# Altium footprint library PCB1.PcbLib: 18 footprints (part 1 of 2)
Each footprint in its own frame and in the unit in brackets; x right, y up, seen from the top. Pads: shape width x height; smd on the part's side, far side on the other; paste and mask are expansions set on the pad; w line width, h text height; cw(c..) or ccw(c..) is an arc to the next point about the centre after c.
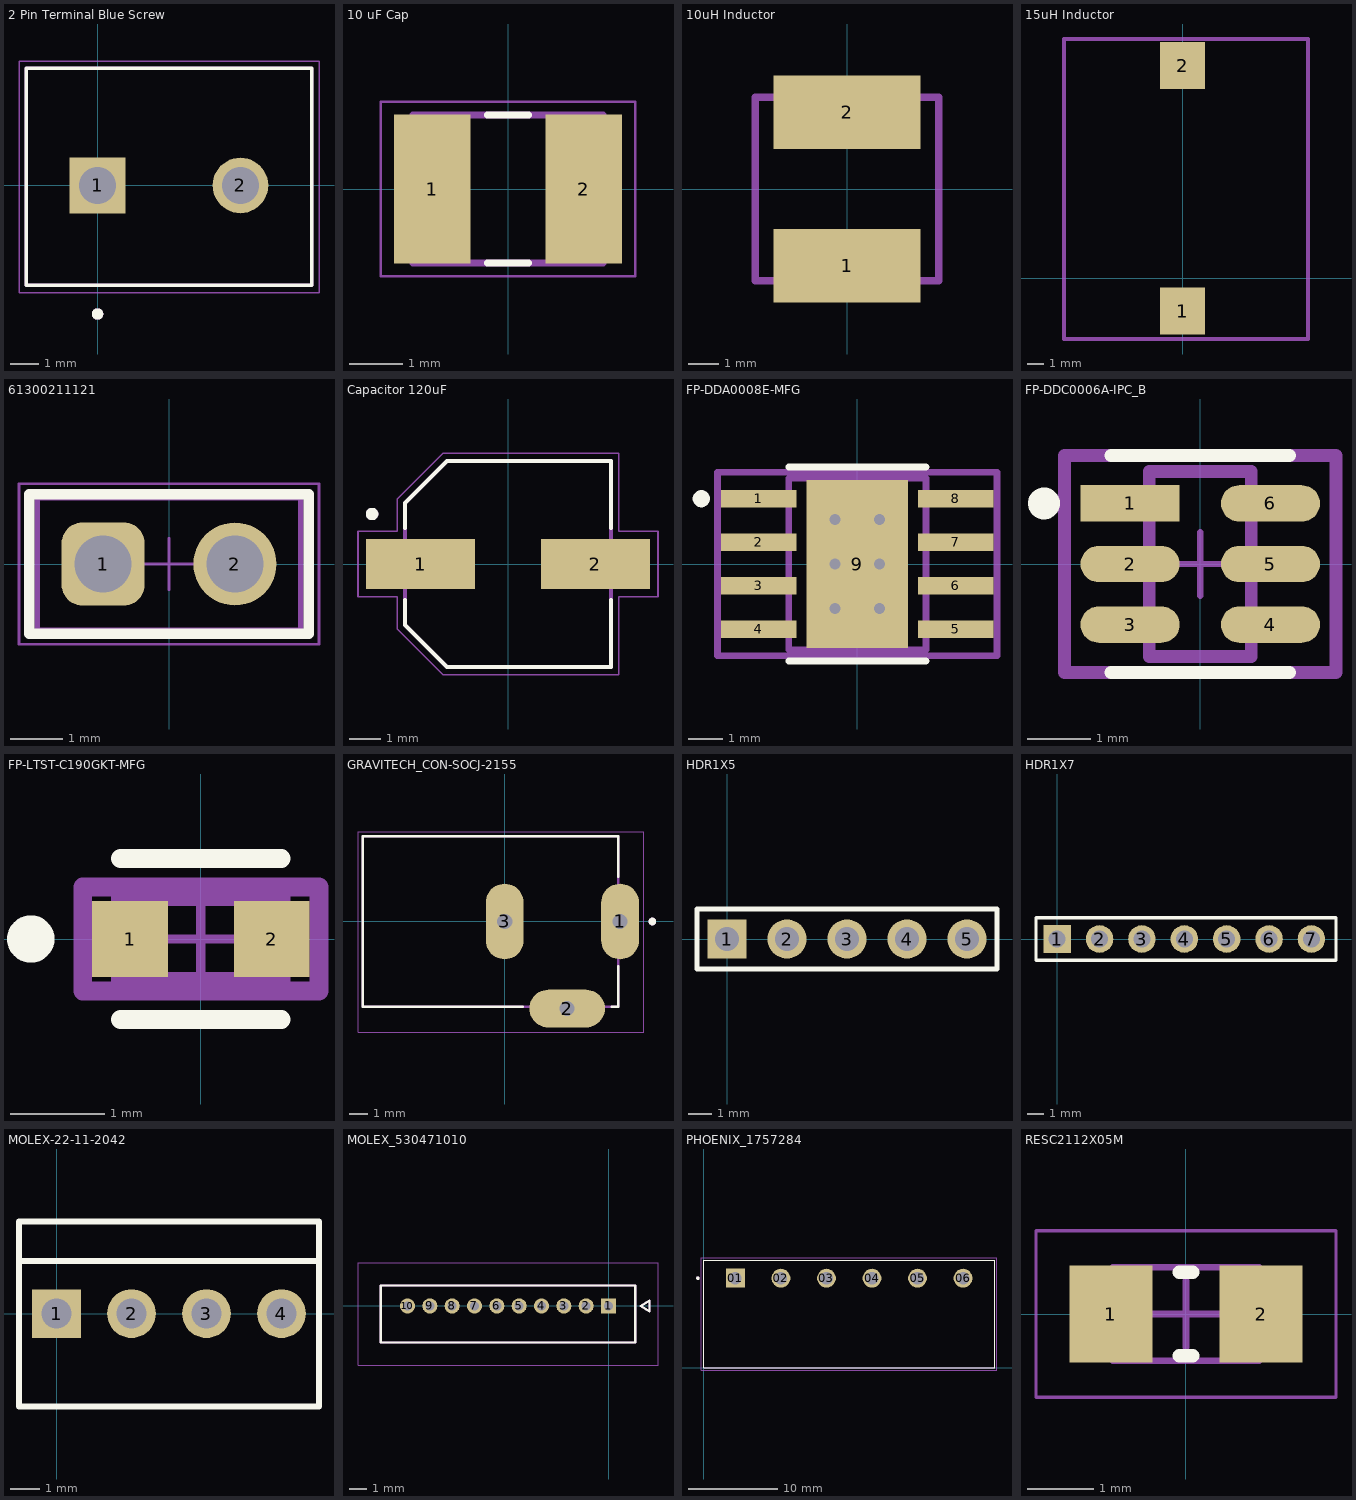
[diagram p0: the footprints below, top view; thin cyan lines are the x and y axes]

## 2 Pin Terminal Blue Screw [mm]
pads (2):
  rect 1.95x1.95 / inner round 1.95 / far side rect 1.95x1.95 hole 1.3: 1(0,0)
  round 1.95 hole 1.3: 2(5,0)
Top Overlay:
  circle w0.2: c0,-4.5 r0.1
  lines w0.127: -2.5,-3.5 -2.5,4.1 7.5,4.1 7.5,-3.5 -2.5,-3.5
Top 3D Body:
  circle w0.2: c0,-4.5 r0.1
  lines w0.127: -2.5,-3.5 -2.5,4.1 7.5,4.1 7.5,-3.5 -2.5,-3.5
Top Courtyard:
  lines w0.05: -2.75,-3.75 7.75,-3.75 7.75,4.35 -2.75,4.35 -2.75,-3.75

## 10 uF Cap [mm] "1210 footprint"
pads (2):
  rect 1.45x2.81 smd: 1(-1.43,0) 2(1.43,0)
Top Overlay:
  lines w0.127: -0.39,-1.4 0.39,-1.4 ; -0.39,1.4 0.39,1.4
Top 3D Body:
  lines w0.127: -1.8,-1.4 -1.8,1.4 1.8,1.4 1.8,-1.4 -1.8,-1.4
Top Courtyard:
  lines w0.05: -2.404,-1.65 -2.404,1.65 2.404,1.65 2.404,-1.65 -2.404,-1.65

## 10uH Inductor [mm] "10 µH Unshielded Wirewound Inductor 2.6 A 60mOhm Max 2424 (6060 Metric)"
pads (2):
  rect 4.8x2.4 smd: 1(0,-2.5) 2(0,2.5)
Mechanical 1:
  lines w0.254: -3,-3 3,-3 3,3 -3,3 -3,-3

## 15uH Inductor [mil] "FIXED IND 15UH 4A 36 MOHM SMD"
pads (2):
  rect 110x115 smd: 1(0,-80) 2(0,520)
Mechanical 1:
  lines w10: -290,-148 -290,585 306,585 306,-148 -290,-148
3D body "3D_Model_P0250.224NL.STEP": height 266.61, standoff 1.61, extent -285,-145.5 306,582.5

## 61300211121 [mm] "Pin Header, pitch 2.54 mm, THT, Vertical, single row, 2p"
height 8.54
pads (2):
  rrect50% 1.6x1.6 hole 1.1: 1(-1.27,0)
  round 1.6 hole 1.1: 2(1.27,0)
Top Overlay:
  lines w0.2: -2.69,-1.345 2.69,-1.345 2.69,1.345 -2.69,1.345 -2.69,-1.345
Top Designator:
  text ".Designator" at -7.498,-0.5 h1.5
Top Component Outline:
  lines w0.1: -2.54,-1.27 -2.54,1.27 2.54,1.27 2.54,-1.27 -2.54,-1.27
Top 3D Body:
  lines w0.1: -2.54,-1.27 -2.54,1.27 2.54,1.27 2.54,-1.27 -2.54,-1.27
Top Courtyard:
  lines w0.05: -0.5,0 0.5,0 ; 0,-0.5 0,0.5 ; -2.89,-1.545 -2.89,1.545 2.89,1.545 2.89,-1.545 -2.89,-1.545
3D body "61300211121.stp": height 8.57, standoff -2.97, extent -2.54,-1.27 2.54,1.27

## Capacitor 120uF [mm]
pads (2):
  rect 3.5x1.6 smd: 1(-2.8,0) 2(2.8,0)
Top Overlay:
  circle w0.2: c-4.35,1.6 r0.1
  lines w0.127: -3.3,-1.15 -3.3,-1.95 -1.95,-3.3 3.3,-3.3 3.3,-1.15 ; -3.3,1.15 -3.3,1.95 -1.95,3.3 3.3,3.3 3.3,1.15
Top 3D Body:
  circle w0.2: c-4.35,1.6 r0.1
  lines w0.127: -3.3,-1.95 -3.3,1.95 -1.95,3.3 3.3,3.3 3.3,-3.3 -1.95,-3.3 -3.3,-1.95
Top Courtyard:
  lines w0.05: -4.8,-1.05 -4.8,1.05 -3.55,1.05 -3.55,2.075 -2.075,3.55 3.55,3.55 3.55,1.05 4.8,1.05 4.8,-1.05 3.55,-1.05 3.55,-3.55 -2.075,-3.55 -3.55,-2.075 -3.55,-1.05 -4.8,-1.05

## FP-DDA0008E-MFG [mm]
pads (9):
  rect 2.2x0.5 smd paste-1000 mask+0: 1(-2.875,1.905) 2(-2.875,0.635) 3(-2.875,-0.635) 4(-2.875,-1.905) 5(2.875,-1.905) 6(2.875,-0.635) 7(2.875,0.635) 8(2.875,1.905)
  rect 2.95x4.9 smd paste-1000 mask-1000: 9(0,0)
via 0.65,-1.3 diameter 0.63 hole 0.33
via 0.65,0 diameter 0.63 hole 0.33
via 0.65,1.3 diameter 0.63 hole 0.33
via -0.65,-1.3 diameter 0.63 hole 0.33
via -0.65,0 diameter 0.63 hole 0.33
via -0.65,1.3 diameter 0.63 hole 0.33
Top Overlay:
  circle w0.25: c-4.55,1.905 r0.125
  lines w0.2: -2,-2.825 2,-2.825 ; -2,2.825 2,2.825
Top Paste:
  rectangle: 1.8,-2.13 3.95,-1.68
  rectangle: 1.8,-0.86 3.95,-0.41
  rectangle: 1.8,0.41 3.95,0.86
  rectangle: 1.8,1.68 3.95,2.13
  rectangle: -3.95,-2.13 -1.8,-1.68
  rectangle: -3.95,-0.86 -1.8,-0.41
  rectangle: -3.95,0.41 -1.8,0.86
  rectangle: -3.95,1.68 -1.8,2.13
  rectangle: -1.2,-1.549 1.2,1.551
Top Solder:
  rectangle: -1.2,-1.549 1.2,1.551
Top Assembly:
  lines w0.2: -4.075,-2.675 -4.075,2.675 4.075,2.675 4.075,-2.675 -4.075,-2.675
  text ".Designator" at 0,0.188 h1
Top 3D Body:
  lines w0.2: -2,-2.5 -2,2.5 2,2.5 2,-2.5 -2,-2.5
Top Courtyard:
  lines w0.2: -4.075,-2.675 -4.075,2.675 4.075,2.675 4.075,-2.675 -4.075,-2.675
Top Component Center:
  lines w0.1: -0.5,0 0.5,0 ; 0,-0.5 0,0.5
3D body "IC_Texas_Instruments_TPS54360BQDDARQ1_eec.STEP": height 0.25, standoff 0, extent -4.075,-2.675 4.075,2.675

## FP-DDC0006A-IPC_B [mm]
pads (6):
  rect 1.554x0.572 smd paste+0 mask+0: 1(-1.1,0.95)
  rrect100% 1.554x0.572 smd paste+0 mask+0: 2(-1.1,0) 3(-1.1,-0.95) 4(1.1,-0.95) 5(1.1,0) 6(1.1,0.95)
Top Overlay:
  circle w0.25: c-2.45,0.95 r0.125
  lines w0.2: -1.4,-1.7 1.4,-1.7 ; -1.4,1.7 1.4,1.7
Top Assembly:
  lines w0.2: -2.127,-1.7 -2.127,1.7 2.127,1.7 2.127,-1.7 -2.127,-1.7
  text ".Designator" at 0,0.188 h1
Top 3D Body:
  lines w0.2: -0.8,-1.45 -0.8,1.45 0.8,1.45 0.8,-1.45 -0.8,-1.45
Top Courtyard:
  lines w0.2: -2.127,-1.7 -2.127,1.7 2.127,1.7 2.127,-1.7 -2.127,-1.7
Top Component Center:
  lines w0.1: -0.5,0 0.5,0 ; 0,-0.5 0,0.5
3D body "IC_Texas_Instruments_TPS562201DDCT_eec.STEP": height 0.25, standoff 0, extent -2.127,-1.7 2.127,1.7

## FP-LTST-C190GKT-MFG [mm]
pads (2):
  rect 0.8x0.8 smd paste+0 mask+0: 1(-0.75,0) 2(0.75,0)
Top Overlay:
  circle w0.25: c-1.8,0 r0.125
  lines w0.2: -0.85,-0.85 0.85,-0.85 ; -0.85,0.85 0.85,0.85
Top Assembly:
  lines w0.2: -1.25,-0.55 1.25,-0.55 1.25,0.55 -1.25,0.55 -1.25,-0.55
  text ".Designator" at 0,0 h1
Top 3D Body:
  lines w0.2: -0.85,-0.45 0.85,-0.45 0.85,0.45 -0.85,0.45 -0.85,-0.45
Top Courtyard:
  lines w0.2: -1.25,-0.55 1.25,-0.55 1.25,0.55 -1.25,0.55 -1.25,-0.55
Top Component Center:
  lines w0.1: -0.5,0 0.5,0 ; 0,-0.5 0,0.5
3D body "Diode_Lite-On_LTST-C190GKT_eec.STEP": height 0.25, standoff 0, extent -1.25,-0.55 1.25,0.55

## GRAVITECH_CON-SOCJ-2155 [mm]
height 11.1
pads (3):
  oval 2x4 hole 0.8 square: 1(6.1,0) 3(0,0)
  oval 4x2 hole 0.8 square: 2(3.3,-4.6)
Top Overlay:
  circle w0.2: c7.8,0 r0.1
  lines w0.127: 0.95,-4.5 -7.5,-4.5 -7.5,4.5 6,4.5 6,2.35 ; 5.65,-4.5 6,-4.5 6,-2.35
Top 3D Body:
  circle w0.2: c7.8,0 r0.1
  lines w0.127: -7.5,-4.5 6,-4.5 6,4.5 -7.5,4.5 -7.5,-4.5
Top Courtyard:
  lines w0.05: -7.75,-5.85 7.35,-5.85 7.35,4.75 -7.75,4.75 -7.75,-5.85
3D body "step_temp.STEP": height 11.1, standoff -4.29, extent -7.512,-5.004 6.588,4.246

## HDR1X5 [mil] "Connector; Header; 5 Position"
pads (5):
  rect 65x65 hole 40: 1(0,0)
  round 65 hole 40: 2(100,0) 3(200,0) 4(300,0) 5(400,0)
Top Overlay:
  lines w7.87: -50,-50 -50,50 450,50 450,-50 -50,-50
3D body "pin_header_aw_108_05-t.stp": height 370.08, standoff -118.11, extent -45,-49.14 455,49.14

## HDR1X7 [mil] "Connector; Header; 16 Position"
pads (7):
  rect 65x65 hole 40: 1(0,0)
  round 65 hole 40: 2(100,0) 3(200,0) 4(300,0) 5(400,0) 6(500,0) 7(600,0)
Top Overlay:
  lines w7.87: -50,-50 658,-50 658,50 25,50 -50,50 -50,-50
3D body "pin_header_aw_108_07-t.stp": height 370.08, standoff -118.11, extent -46.06,-49.26 653.94,49.03

## MOLEX-22-11-2042 [mil] "CONN HEADER 4POS .100 VERT GOLD"
pads (4):
  rect 65x65 hole 40: 1(0,0)
  round 65 hole 40: 2(100,0) 3(200,0) 4(300,0)
Top Overlay:
  lines w7.87: -50,70 349,70 ; -50,-124 350,-124 350,123 -50,123 -50,-124
3D body "022112042.stp": height 422.46, standoff -137.54, extent -47,-128 347,122

## MOLEX_530471010 [mm]
height 4.2
pads (10):
  rect 0.85x0.85 / inner round 0.85 / far side rect 0.85x0.85 hole 0.5 mask+0.076: 1(0,0)
  round 0.85 hole 0.5 mask+0.076: 2(-1.25,0) 3(-2.5,0) 4(-3.75,0) 5(-5,0) 6(-6.25,0) 7(-7.5,0) 8(-8.75,0) 9(-10,0) 10(-11.25,0)
Top Overlay:
  lines w0.127: -12.75,-2.05 -12.75,1.15 1.5,1.15 1.5,-2.05 -12.75,-2.05 ; 1.8,0 2.3,0.3 2.3,-0.3 1.8,0
Top 3D Body:
  lines w0.127: -12.75,-2.05 -12.75,1.15 1.5,1.15 1.5,-2.05 -12.75,-2.05 ; 1.8,0 2.3,0.3 2.3,-0.3 1.8,0
  text "PTH D0.5 +/- 0.05" at -13.75,-7 h0.5
Top Courtyard:
  lines w0.05: -14.02,-3.32 -14.02,2.42 2.77,2.42 2.77,-3.32 -14.02,-3.32

## PHOENIX_1757284 [mm] "6 pos connector"
pads (6):
  rect 2.1x2.1 / inner round 2.1 / far side rect 2.1x2.1 hole 1.4: 01(3.54,10)
  round 2.1 hole 1.4: 02(8.62,10) 03(13.7,10) 04(18.78,10) 05(23.86,10) 06(28.94,10)
Top Overlay:
  circle w0.2: c-0.65,10 r0.1
  lines w0.127: 0,0 0,12 32.48,12 32.48,0 0,0
Top 3D Body:
  circle w0.2: c-0.65,10 r0.1
  lines w0.127: 0,0 0,12 32.48,12 32.48,0 0,0
Top Courtyard:
  lines w0.05: -0.25,-0.25 -0.25,12.25 32.73,12.25 32.73,-0.25 -0.25,-0.25

## RESC2112X05M [mm] "Chip Resistor, 2-Leads, Body 2.05x1.25mm, IPC Low Density"
height 0.5
pads (2):
  rect 1.25x1.45 smd: 1(-1.125,0) 2(1.125,0)
Top Overlay:
  lines w0.2: -0.1,-0.625 0.1,-0.625 ; -0.1,0.625 0.1,0.625
Top 3D Body:
  lines w0.1: -1.1,-0.7 1.1,-0.7 1.1,0.7 -1.1,0.7 -1.1,-0.7
Top Courtyard:
  lines w0.05: -2.25,-1.25 2.25,-1.25 2.25,1.25 -2.25,1.25 -2.25,-1.25
  lines w0.1: -0.5,0 0.5,0 ; 0,-0.5 0,0.5
3D body: height 0.5, standoff 0, extent 0.75,-0.7 1.1,0.7
3D body: height 0.5, standoff 0, extent -1.1,-0.7 -0.75,0.7
3D body: height 0.5, standoff 0, extent -0.75,-0.7 0.75,0.7